# EAGLE library part LT3959 (library LT3959QFN)
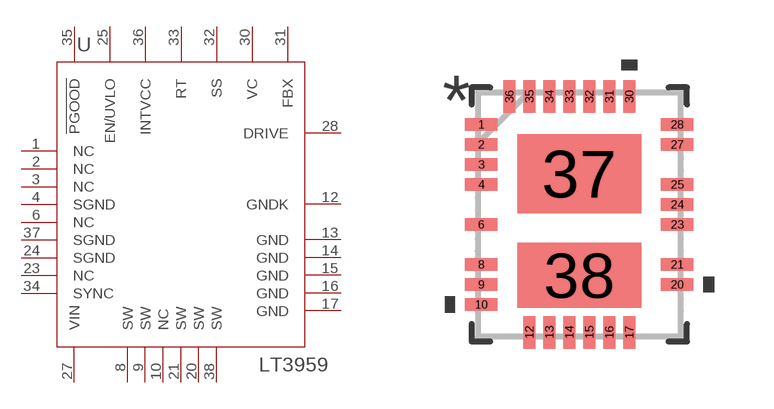
[diagram p0: symbol with the pads of QFN-36_UHEMA; footprint QFN-36_UHEMA]

Designator prefix U

## LT3959  [QFN-36_UHEMA]
1  NC  pas
2  NC  pas
3  NC  pas
4  SGND  pas
6  NC  pas
8  SW  pas
9  SW  pas
10  NC  pas
12  GNDK  pas
13  GND  pas
14  GND  pas
15  GND  pas
16  GND  pas
17  GND  pas
20  SW  pas
21  SW  pas
23  NC  pas
24  SGND  pas
25  EN/UVLO  pas
27  VIN  pas
28  DRIVE  pas
30  VC  pas
31  FBX  pas
32  SS  pas
33  RT  pas
34  SYNC  pas
35  !PGOOD!  pas
36  INTVCC  pas
37  SGND  pas
38  SW  pas

## Footprint QFN-36_UHEMA (pad centres in mm)
smd 0.813 x 0.305: 1 -2.451,2.25; 2 -2.451,1.75; 3 -2.451,1.25; 4 -2.451,0.75; 6 -2.451,-0.25; 8 -2.451,-1.25; 9 -2.451,-1.75; 10 -2.451,-2.25; 20 2.451,-1.75; 21 2.451,-1.25; 23 2.451,-0.25; 24 2.451,0.25; 25 2.451,0.75; 27 2.451,1.75; 28 2.451,2.25
smd 0.305 x 0.813: 12 -1.25,-2.946; 13 -0.75,-2.946; 14 -0.25,-2.946; 15 0.25,-2.946; 16 0.75,-2.946; 17 1.25,-2.946; 30 1.25,2.946; 31 0.75,2.946; 32 0.25,2.946; 33 -0.25,2.946; 34 -0.75,2.946; 35 -1.25,2.946; 36 -1.75,2.946
smd 3.099 x 1.981: 37 0,1.02
smd 3.099 x 1.626: 38 0,-1.52